# EAGLE library part SEN-13879 (library SEN-13879)
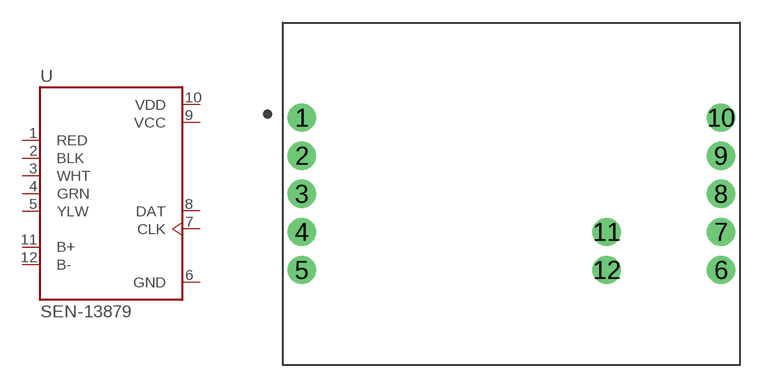
[diagram p0: symbol with the pads of SPARKFUN_SEN-13879; footprint SPARKFUN_SEN-13879]

Designator prefix U

## SEN-13879 (MANUFACTURER: SparkFun; STANDARD: Manufacturer Recommendations)  [SPARKFUN_SEN-13879]
1  RED
2  BLK
3  WHT  in
4  GRN  in
5  YLW
6  GND  pwr
7  CLK  in
8  DAT  out
9  VCC  pwr
10  VDD  pwr
11  B+  in
12  B-  in

## Footprint SPARKFUN_SEN-13879 (pad centres in mm)
drill 1.016 pad 1.88: 1 -13.97,5.08; 2 -13.97,2.54; 3 -13.97,0; 4 -13.97,-2.54; 5 -13.97,-5.08; 6 13.97,-5.08; 7 13.97,-2.54; 8 13.97,0; 9 13.97,2.54; 10 13.97,5.08; 11 6.35,-2.54; 12 6.35,-5.08